# Altium footprint library MLB_PCBLib.PcbLib: 75 footprints (part 4 of 5)
Each footprint in its own frame and in the unit in brackets; x right, y up, seen from the top. Pads: shape width x height; smd on the part's side, far side on the other; paste and mask are expansions set on the pad; w line width, h text height; cw(c..) or ccw(c..) is an arc to the next point about the centre after c.
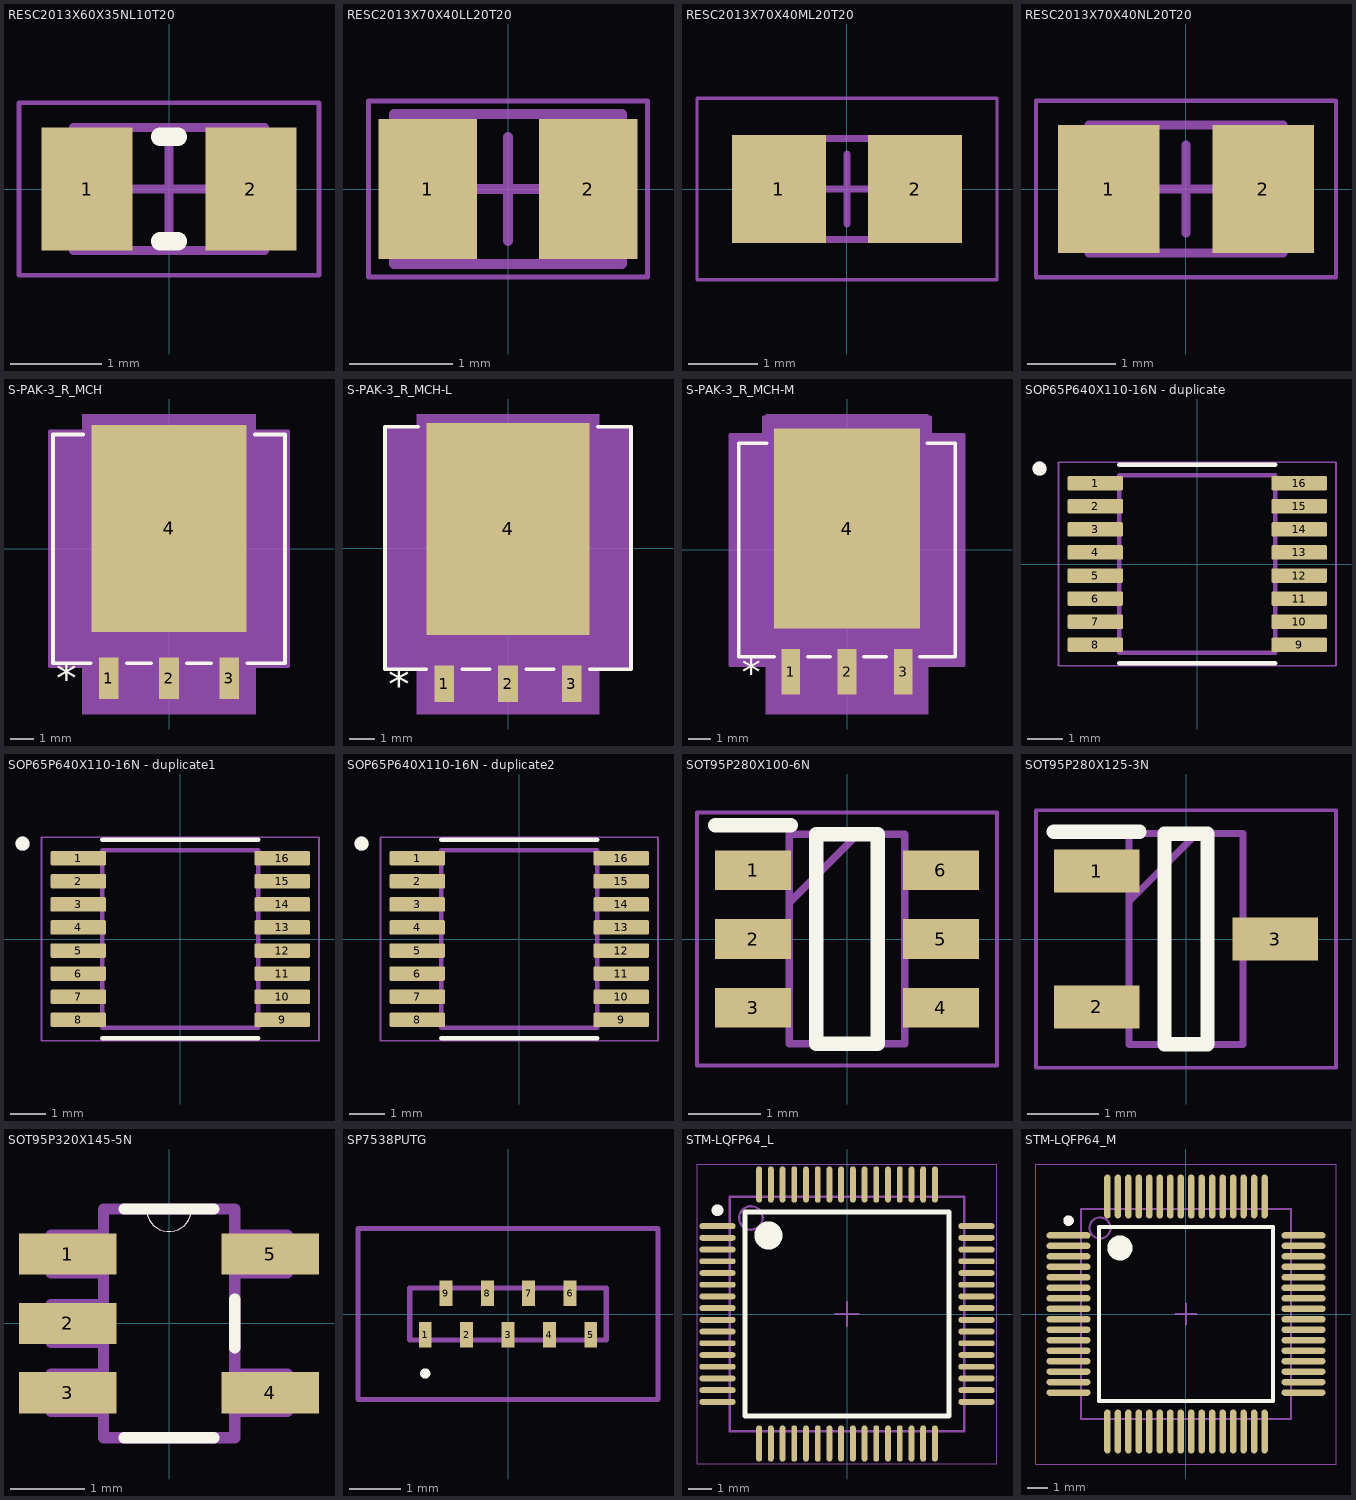
[diagram p3: the footprints below, top view; thin cyan lines are the x and y axes]

## RESC2013X60X35NL10T20 [mm] "Chip Resistor, 2-Leads, Body 2.1x1.35mm, IPC Medium Density"
height 0.6
pads (2):
  rect 1x1.35 smd: 1(-0.9,0) 2(0.9,0)
Top Overlay:
  lines w0.2: -0.1,-0.575 0.1,-0.575 ; -0.1,0.575 0.1,0.575
Mechanical 13:
  lines w0.1: -1.05,-0.675 1.05,-0.675 1.05,0.675 -1.05,0.675 -1.05,-0.675
Mechanical 15:
  lines w0.05: -1.65,-0.95 1.65,-0.95 1.65,0.95 -1.65,0.95 -1.65,-0.95
  lines w0.1: -0.5,0 0.5,0 ; 0,-0.5 0,0.5
3D body "RESC2012X06N.step": height 0.6, standoff 0, extent -1.05,-0.675 1.05,0.675

## RESC2013X70X40LL20T20 [mm] "Chip Resistor, 2-Leads, Body 2.00x1.25mm, IPC High Density"
height 0.7
pads (2):
  rect 0.95x1.35 smd: 1(-0.775,0) 2(0.775,0)
Mechanical 13:
  lines w0.1: -1.1,-0.725 -1.1,0.725 1.1,0.725 1.1,-0.725 -1.1,-0.725
Mechanical 15:
  lines w0.05: -1.35,-0.85 -1.35,0.85 1.35,0.85 1.35,-0.85 -1.35,-0.85
  lines w0.1: -0.5,0 0.5,0 ; 0,-0.5 0,0.5
3D body: height 0.7, standoff 0, extent -0.7,-0.725 0.7,0.725
3D body: height 0.7, standoff 0, extent -1.1,-0.725 -0.7,0.725
3D body: height 0.7, standoff 0, extent 0.7,-0.725 1.1,0.725

## RESC2013X70X40ML20T20 [mm] "Chip Resistor, 2-Leads, Body 2.00x1.25mm, IPC Low Density"
height 0.7
pads (2):
  rect 1.35x1.55 smd: 1(-0.975,0) 2(0.975,0)
Mechanical 13:
  lines w0.1: -1.1,-0.725 1.1,-0.725 1.1,0.725 -1.1,0.725 -1.1,-0.725
Mechanical 15:
  lines w0.05: -2.15,-1.3 2.15,-1.3 2.15,1.3 -2.15,1.3 -2.15,-1.3
  lines w0.1: -0.5,0 0.5,0 ; 0,-0.5 0,0.5
3D body: height 0.7, standoff 0, extent 0.7,-0.725 1.1,0.725
3D body: height 0.7, standoff 0, extent -1.1,-0.725 -0.7,0.725
3D body: height 0.7, standoff 0, extent -0.7,-0.725 0.7,0.725

## RESC2013X70X40NL20T20 [mm] "Chip Resistor, 2-Leads, Body 2.00x1.25mm, IPC Medium Density"
height 0.7
pads (2):
  rect 1.15x1.45 smd: 1(-0.875,0) 2(0.875,0)
Mechanical 13:
  lines w0.1: -1.1,-0.725 -1.1,0.725 1.1,0.725 1.1,-0.725 -1.1,-0.725
Mechanical 15:
  lines w0.05: -1.7,-1 -1.7,1 1.7,1 1.7,-1 -1.7,-1
  lines w0.1: -0.5,0 0.5,0 ; 0,-0.5 0,0.5
3D body: height 0.7, standoff 0, extent -0.7,-0.725 0.7,0.725
3D body: height 0.7, standoff 0, extent -1.1,-0.725 -0.7,0.725
3D body: height 0.7, standoff 0, extent 0.7,-0.725 1.1,0.725

## S-PAK-3_R_MCH [mil]
pads (4):
  rect 33x69 smd paste+0 mask+0: 1(-100,-214.5) 2(0,-214.5) 3(100,-214.5)
  rect 258x344 smd paste+0 mask+0: 4(0,34)
Top Overlay:
  lines w6: -142.1,190 -192.5,190 -192.5,-190 -129.6,-190 ; -70.4,-190 -29.6,-190 ; 29.6,-190 70.4,-190 ; 129.6,-190 192.5,-190 192.5,190 142.1,190
  text "*" at -187.5,-239.5 h50
Mechanical 5:
  region: -144,224 144,224 144,-274 -144,-274
Mechanical 13:
  lines w1: -187.5,-185 187.5,-185 187.5,185 -187.5,185 -187.5,-185 ; -115.5,-235 -115.5,-185 -84.5,-185 -84.5,-235 -115.5,-235 ; -15.5,-235 -15.5,-185 15.5,-185 15.5,-235 -15.5,-235 ; -7.5,-200 -7.5,-185 7.5,-185 7.5,-200 -7.5,-200 ; 84.5,-235 84.5,-185 115.5,-185 115.5,-235 84.5,-235
  text "*" at -112.5,-200 h50
Mechanical 15:
  region: -197.5,-195 -197.5,195 -138,195 -138,216 138,216 138,195 197.5,195 197.5,-195 126.5,-195 126.5,-259 -126.5,-259 -126.5,-195
  lines w6: -197.5,-195 -197.5,195 -138,195 -138,216 138,216 138,195 197.5,195 197.5,-195 126.5,-195 126.5,-259 -126.5,-259 -126.5,-195 -197.5,-195
3D body "S-PAK-3_R_MCH.step": height 67.09, standoff -2.01, extent -187.48,-235 187.48,185

## S-PAK-3_R_MCH-L [mil]
pads (4):
  rect 31x57 smd paste+0 mask+0: 1(-100,-212.5) 2(0,-212.5) 3(100,-212.5)
  rect 256x332 smd paste+0 mask+0: 4(0,30)
Top Overlay:
  lines w6: -141.1,190 -192.5,190 -192.5,-190 -128.6,-190 ; -71.4,-190 -28.6,-190 ; 28.6,-190 71.4,-190 ; 128.6,-190 192.5,-190 192.5,190 141.1,190
  text "*" at -187.5,-237.5 h50
Mechanical 5:
  region: -143,210 143,210 143,-260 -143,-260
Mechanical 13:
  lines w1: -187.5,-185 187.5,-185 187.5,185 -187.5,185 -187.5,-185 ; -115.5,-235 -115.5,-185 -84.5,-185 -84.5,-235 -115.5,-235 ; -15.5,-235 -15.5,-185 15.5,-185 15.5,-235 -15.5,-235 ; -7.5,-200 -7.5,-185 7.5,-185 7.5,-200 -7.5,-200 ; 84.5,-235 84.5,-185 115.5,-185 115.5,-235 84.5,-235
  text "*" at -112.5,-200 h50
Mechanical 15:
  region: -191.5,-189 -191.5,189 -132,189 -132,200 132,200 132,189 191.5,189 191.5,-189 119.5,-189 119.5,-245 -119.5,-245 -119.5,-189
  lines w6: -191.5,-189 -191.5,189 -132,189 -132,200 132,200 132,189 191.5,189 191.5,-189 119.5,-189 119.5,-245 -119.5,-245 -119.5,-189 -191.5,-189
3D body "S-PAK-3_R_MCH.step": height 67.09, standoff -2.01, extent -187.48,-235 187.48,185

## S-PAK-3_R_MCH-M [mil]
pads (4):
  rect 33x81 smd paste+0 mask+0: 1(-100,-216.5) 2(0,-216.5) 3(100,-216.5)
  rect 260x356 smd paste+0 mask+0: 4(0,38)
Top Overlay:
  lines w6: -143.1,190 -192.5,190 -192.5,-190 -129.6,-190 ; -70.4,-190 -29.6,-190 ; 29.6,-190 70.4,-190 ; 129.6,-190 192.5,-190 192.5,190 143.1,190
  text "*" at -187.5,-241.5 h50
Mechanical 5:
  region: -145,242 145,242 145,-292 -145,-292
Mechanical 13:
  lines w1: -187.5,-185 -187.5,185 187.5,185 187.5,-185 -187.5,-185 ; -115.5,-235 -84.5,-235 -84.5,-185 -115.5,-185 -115.5,-235 ; -15.5,-235 15.5,-235 15.5,-185 -15.5,-185 -15.5,-235 ; -7.5,-200 7.5,-200 7.5,-185 -7.5,-185 -7.5,-200 ; 84.5,-235 115.5,-235 115.5,-185 84.5,-185 84.5,-235
  text "*" at -112.5,-200 h50
Mechanical 15:
  region: -207.5,-205 -207.5,205 -148,205 -148,236 148,236 148,205 207.5,205 207.5,-205 136.5,-205 136.5,-277 -136.5,-277 -136.5,-205
  lines w6: -207.5,-205 -136.5,-205 -136.5,-277 136.5,-277 136.5,-205 207.5,-205 207.5,205 148,205 148,236 -148,236 -148,205 -207.5,205 -207.5,-205
3D body "S-PAK-3_R_MCH.step": height 67.09, standoff -2.01, extent -187.48,-235 187.48,185

## SOP65P640X110-16N - duplicate [mm]
pads (16):
  rrect25% 1.57x0.41 smd: 1(-2.87,2.275) 2(-2.87,1.625) 3(-2.87,0.975) 4(-2.87,0.325) 5(-2.87,-0.325) 6(-2.87,-0.975) 7(-2.87,-1.625) 8(-2.87,-2.275) 9(2.87,-2.275) 10(2.87,-1.625) 11(2.87,-0.975) 12(2.87,-0.325) 13(2.87,0.325) 14(2.87,0.975) 15(2.87,1.625) 16(2.87,2.275)
Top Overlay:
  circle w0.2: c-4.44,2.685 r0.1
  lines w0.127: -2.2,-2.8 2.2,-2.8 ; -2.2,2.8 2.2,2.8
Mechanical 13:
  circle w0.2: c-4.44,2.685 r0.1
  lines w0.127: -2.2,-2.5 -2.2,2.5 2.2,2.5 2.2,-2.5 -2.2,-2.5
Mechanical 15:
  lines w0.05: -3.905,-2.863 -3.905,2.863 3.905,2.863 3.905,-2.863 -3.905,-2.863

## SOP65P640X110-16N - duplicate1 [mm]
pads (16):
  rrect25% 1.57x0.41 smd: 1(-2.87,2.275) 2(-2.87,1.625) 3(-2.87,0.975) 4(-2.87,0.325) 5(-2.87,-0.325) 6(-2.87,-0.975) 7(-2.87,-1.625) 8(-2.87,-2.275) 9(2.87,-2.275) 10(2.87,-1.625) 11(2.87,-0.975) 12(2.87,-0.325) 13(2.87,0.325) 14(2.87,0.975) 15(2.87,1.625) 16(2.87,2.275)
Top Overlay:
  circle w0.2: c-4.44,2.685 r0.1
  lines w0.127: -2.2,-2.8 2.2,-2.8 ; -2.2,2.8 2.2,2.8
Mechanical 13:
  circle w0.2: c-4.44,2.685 r0.1
  lines w0.127: -2.2,-2.5 -2.2,2.5 2.2,2.5 2.2,-2.5 -2.2,-2.5
Mechanical 15:
  lines w0.05: -3.905,-2.863 -3.905,2.863 3.905,2.863 3.905,-2.863 -3.905,-2.863

## SOP65P640X110-16N - duplicate2 [mm]
pads (16):
  rrect25% 1.57x0.41 smd: 1(-2.87,2.275) 2(-2.87,1.625) 3(-2.87,0.975) 4(-2.87,0.325) 5(-2.87,-0.325) 6(-2.87,-0.975) 7(-2.87,-1.625) 8(-2.87,-2.275) 9(2.87,-2.275) 10(2.87,-1.625) 11(2.87,-0.975) 12(2.87,-0.325) 13(2.87,0.325) 14(2.87,0.975) 15(2.87,1.625) 16(2.87,2.275)
Top Overlay:
  circle w0.2: c-4.44,2.685 r0.1
  lines w0.127: -2.2,-2.8 2.2,-2.8 ; -2.2,2.8 2.2,2.8
Mechanical 13:
  circle w0.2: c-4.44,2.685 r0.1
  lines w0.127: -2.2,-2.5 2.2,-2.5 2.2,2.5 -2.2,2.5 -2.2,-2.5
Mechanical 15:
  lines w0.05: -3.905,-2.863 3.905,-2.863 3.905,2.863 -3.905,2.863 -3.905,-2.863

## SOT95P280X100-6N [mm]
pads (6):
  rect 1.05x0.55 smd: 1(-1.3,0.95) 2(-1.3,0) 3(-1.3,-0.95) 4(1.3,-0.95) 5(1.3,0) 6(1.3,0.95)
Top Overlay:
  lines w0.2: -1.825,1.575 -0.775,1.575 ; -0.425,-1.45 -0.425,1.45 0.425,1.45 0.425,-1.45 -0.425,-1.45
Mechanical 13:
  lines w0.1: -0.8,0.5 0.15,1.45 ; -0.8,-1.45 -0.8,1.45 0.8,1.45 0.8,-1.45 -0.8,-1.45
Mechanical 15:
  lines w0.05: -2.075,-1.75 -2.075,1.75 2.075,1.75 2.075,-1.75 -2.075,-1.75
3D body "AP22615AWU-7.stp": height 1, standoff 0, extent -1.4,-1.45 1.4,1.45

## SOT95P280X125-3N [mm]
pads (3):
  rect 1.2x0.6 smd: 1(-1.25,0.95) 2(-1.25,-0.95) 3(1.25,0)
Top Overlay:
  lines w0.2: -1.85,1.5 -0.65,1.5 ; -0.3,-1.475 -0.3,1.475 0.3,1.475 0.3,-1.475 -0.3,-1.475
Mechanical 13:
  lines w0.1: -0.8,0.525 0.15,1.475 ; -0.8,-1.475 -0.8,1.475 0.8,1.475 0.8,-1.475 -0.8,-1.475
Mechanical 15:
  lines w0.05: -2.1,-1.8 -2.1,1.8 2.1,1.8 2.1,-1.8 -2.1,-1.8
3D body "AO3423.stp": height 1.25, standoff 0, extent -1.4,-1.475 1.4,1.475

## SOT95P320X145-5N [mil]
pads (5):
  rect 52x22 smd: 1(-54,37) 2(-54,0) 3(-54,-37) 4(54,-37) 5(54,37)
Top Overlay:
  lines w0: -12,61 ccw(c0,61) 12,61
  lines w6: -24,-61 24,-61 ; -24,61 -12,61 12,61 24,61 ; 35,-13 35,13
Mechanical 13:
  lines w0: -12,61 ccw(c0,61) 12,61
  lines w6: -35,-47 -63,-47 -63,-27 -35,-27 ; -35,-47 -35,-27 ; -35,-47 -35,-61 35,-61 35,-47 ; -35,-27 -35,-10 ; -35,-10 -63,-10 -63,10 -35,10 ; -35,-10 -35,10 ; -35,10 -35,27 ; -35,27 -63,27 -63,47 -35,47 ; -35,27 -35,47 ; -35,47 -35,61 -12,61 12,61 35,61 35,47 ; 35,-47 63,-47 63,-27 35,-27 ; 35,-47 35,-27 ; 35,-27 35,27 ; 35,27 63,27 63,47 35,47 ; 35,27 35,47

## SP7538PUTG [mm]
pads (9):
  rect 0.25x0.5 smd: 1(-1.6,-0.4) 2(-0.8,-0.4) 3(0,-0.4) 4(0.8,-0.4) 5(1.6,-0.4) 6(1.2,0.4) 7(0.4,0.4) 8(-0.4,0.4) 9(-1.2,0.4)
Top Overlay:
  lines w0.1: -1.6,-1.2 ccw(c-1.6,-1.15) -1.6,-1.1 ccw(c-1.6,-1.15) -1.6,-1.2
Mechanical 13:
  lines w0.1: -1.9,-0.5 1.9,-0.5 1.9,0.5 -1.9,0.5 -1.9,-0.5
Mechanical 15:
  lines w0.1: -2.9,-1.65 2.9,-1.65 2.9,1.65 -2.9,1.65 -2.9,-1.65
3D body "SP7538PUTG.stp": height 0.65, standoff 0, extent -1.9,-0.5 1.9,0.5

## STM-LQFP64_L [mm] "Thin QFP, 64-Leads, Body 10x10mm, Pitch 0.5mm, IPC High Density"
height 1.6
pads (64):
  oval 1.55x0.25 smd: 1(-5.525,3.75) 2(-5.525,3.25) 3(-5.525,2.75) 4(-5.525,2.25) 5(-5.525,1.75) 6(-5.525,1.25) 7(-5.525,0.75) 8(-5.525,0.25) 9(-5.525,-0.25) 10(-5.525,-0.75) 11(-5.525,-1.25) 12(-5.525,-1.75) 13(-5.525,-2.25) 14(-5.525,-2.75) 15(-5.525,-3.25) 16(-5.525,-3.75) 33(5.525,-3.75) 34(5.525,-3.25) 35(5.525,-2.75) 36(5.525,-2.25) 37(5.525,-1.75) 38(5.525,-1.25) 39(5.525,-0.75) 40(5.525,-0.25) 41(5.525,0.25) 42(5.525,0.75) 43(5.525,1.25) 44(5.525,1.75) 45(5.525,2.25) 46(5.525,2.75) 47(5.525,3.25) 48(5.525,3.75)
  oval 0.25x1.55 smd: 17(-3.75,-5.525) 18(-3.25,-5.525) 19(-2.75,-5.525) 20(-2.25,-5.525) 21(-1.75,-5.525) 22(-1.25,-5.525) 23(-0.75,-5.525) 24(-0.25,-5.525) 25(0.25,-5.525) 26(0.75,-5.525) 27(1.25,-5.525) 28(1.75,-5.525) 29(2.25,-5.525) 30(2.75,-5.525) 31(3.25,-5.525) 32(3.75,-5.525) 49(3.75,5.525) 50(3.25,5.525) 51(2.75,5.525) 52(2.25,5.525) 53(1.75,5.525) 54(1.25,5.525) 55(0.75,5.525) 56(0.25,5.525) 57(-0.25,5.525) 58(-0.75,5.525) 59(-1.25,5.525) 60(-1.75,5.525) 61(-2.25,5.525) 62(-2.75,5.525) 63(-3.25,5.525) 64(-3.75,5.525)
Top Overlay:
  circle w0.6: c-3.35,3.35 r0.3
  circle w0.25: c-5.525,4.425 r0.125
  lines w0.2: -4.35,-4.35 4.35,-4.35 4.35,4.35 -4.35,4.35 -4.35,-4.35
Mechanical 13:
  circle w0.1: c-4.1,4.1 r0.5
  lines w0.1: -5,-5 5,-5 5,5 -5,5 -5,-5
Mechanical 15:
  lines w0.05: -6.4,-6.4 6.4,-6.4 6.4,6.4 -6.4,6.4 -6.4,-6.4
  lines w0.1: -0.5,0 0.5,0 ; 0,-0.5 0,0.5
3D body: height 1.6, standoff 0.05, extent -5,-5 5,5

## STM-LQFP64_M [mm] "Thin QFP, 64-Leads, Body 10x10mm, Pitch 0.5mm, IPC Low Density"
height 1.6
pads (64):
  oval 2.1x0.3 smd: 1(-5.6,3.75) 2(-5.6,3.25) 3(-5.6,2.75) 4(-5.6,2.25) 5(-5.6,1.75) 6(-5.6,1.25) 7(-5.6,0.75) 8(-5.6,0.25) 9(-5.6,-0.25) 10(-5.6,-0.75) 11(-5.6,-1.25) 12(-5.6,-1.75) 13(-5.6,-2.25) 14(-5.6,-2.75) 15(-5.6,-3.25) 16(-5.6,-3.75) 33(5.6,-3.75) 34(5.6,-3.25) 35(5.6,-2.75) 36(5.6,-2.25) 37(5.6,-1.75) 38(5.6,-1.25) 39(5.6,-0.75) 40(5.6,-0.25) 41(5.6,0.25) 42(5.6,0.75) 43(5.6,1.25) 44(5.6,1.75) 45(5.6,2.25) 46(5.6,2.75) 47(5.6,3.25) 48(5.6,3.75)
  oval 0.3x2.1 smd: 17(-3.75,-5.6) 18(-3.25,-5.6) 19(-2.75,-5.6) 20(-2.25,-5.6) 21(-1.75,-5.6) 22(-1.25,-5.6) 23(-0.75,-5.6) 24(-0.25,-5.6) 25(0.25,-5.6) 26(0.75,-5.6) 27(1.25,-5.6) 28(1.75,-5.6) 29(2.25,-5.6) 30(2.75,-5.6) 31(3.25,-5.6) 32(3.75,-5.6) 49(3.75,5.6) 50(3.25,5.6) 51(2.75,5.6) 52(2.25,5.6) 53(1.75,5.6) 54(1.25,5.6) 55(0.75,5.6) 56(0.25,5.6) 57(-0.25,5.6) 58(-0.75,5.6) 59(-1.25,5.6) 60(-1.75,5.6) 61(-2.25,5.6) 62(-2.75,5.6) 63(-3.25,5.6) 64(-3.75,5.6)
Top Overlay:
  circle w0.6: c-3.15,3.15 r0.3
  circle w0.25: c-5.6,4.45 r0.125
  lines w0.2: -4.15,-4.15 4.15,-4.15 4.15,4.15 -4.15,4.15 -4.15,-4.15
Mechanical 13:
  circle w0.1: c-4.1,4.1 r0.5
  lines w0.1: -5,-5 5,-5 5,5 -5,5 -5,-5
Mechanical 15:
  lines w0.05: -7.15,-7.15 7.15,-7.15 7.15,7.15 -7.15,7.15 -7.15,-7.15
  lines w0.1: -0.5,0 0.5,0 ; 0,-0.5 0,0.5
3D body: height 1.6, standoff 0.05, extent -5,-5 5,5